# Altium schematic symbol library CON3.SchLib: 1 symbol
Pins are listed as number, name and electrical type; pins without a type are passive.

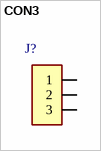
[diagram p0: symbol CON3]

## CON3
designator J?, comment 0.58000  (value not drawn)
ID: 0.58000; PDF: http://www.te.com/commerce/DocumentDelivery/DDEController?Action=srchrtrv&DocNm=292230&DocType=Customer+Drawing&DocLang=English; PRICE: 292230-3; BUY_LINK: http://www.digikey.com/product-detail/en/292230-3/A98708CT-ND/1855502
footprint 3PIN
pins: 1, 2, 3